# Altium integrated library Capacitors.IntLib: 65 symbols
Pins are listed as number, name and electrical type; pins without a type are passive.

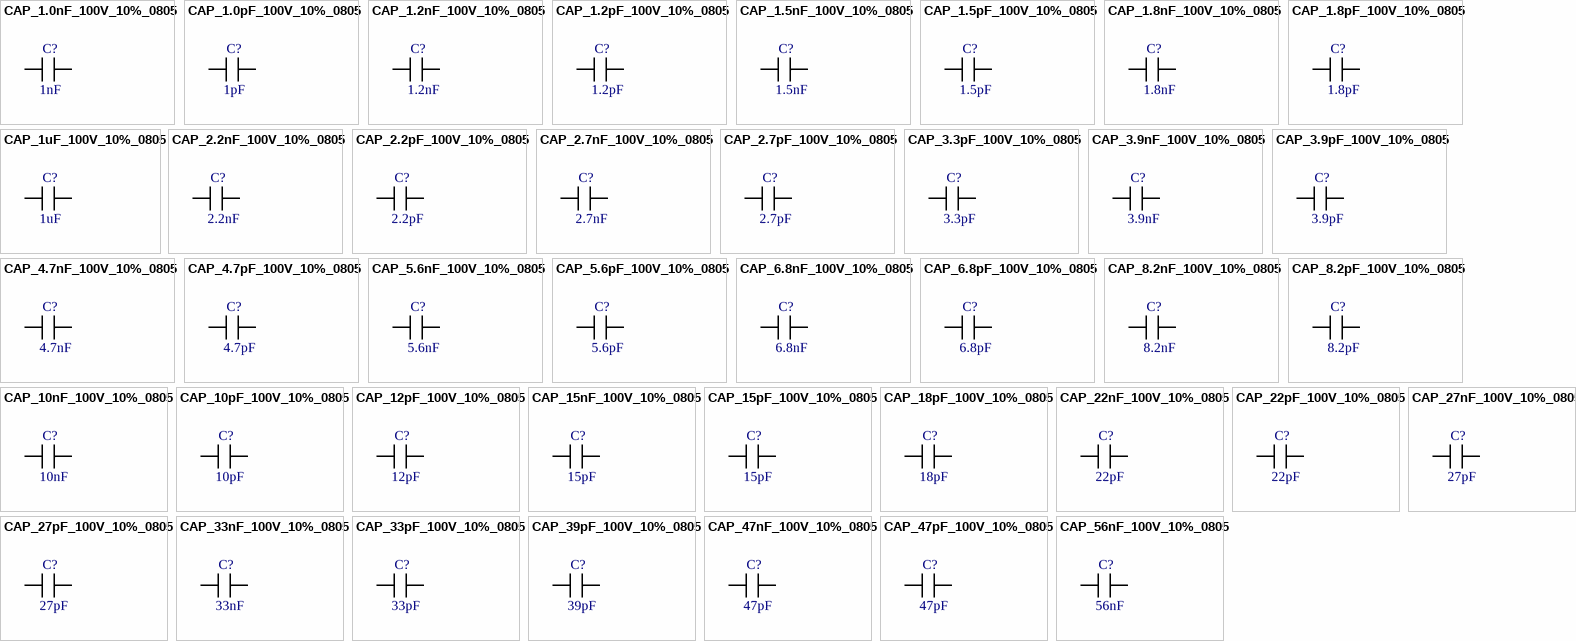
[diagram p0: symbols CAP_1.0nF_100V_10%_0805 to CAP_56nF_100V_10%_0805]

## CAP_1.0nF_100V_10%_0805
designator C?, comment 1nF
AVX 0805 MLCC; Voltage[V]: 100; Tollerance[%]: 10%; Serie: X7R; Package: 0805; Power[W]: *; Codice RS: *; Manufacturer_Part_Number: *; Value[F ]: 1nF
footprint RES_0816_SUS(My_MAXI)
pins: 1, 2

## CAP_1.0pF_100V_10%_0805
designator C?, comment 1pF
AVX 0805 MLCC; Voltage[V]: 100; Tollerance[%]: 10%; Serie: X7R; Package: 0805; Power[W]: *; Codice RS: *; Manufacturer_Part_Number: *; Value[F ]: 1pF
footprint RES_0816_SUS(My_MAXI)
pins: 1, 2

## CAP_1.2nF_100V_10%_0805
designator C?, comment 1.2nF
AVX 0805 MLCC; Voltage[V]: 100; Tollerance[%]: 10%; Serie: X7R; Package: 0805; Power[W]: *; Codice RS: *; Manufacturer_Part_Number: *; Value[F ]: 1.2nF
footprint RES_0816_SUS(My_MAXI)
pins: 1, 2

## CAP_1.2pF_100V_10%_0805
designator C?, comment 1.2pF
AVX 0805 MLCC; Voltage[V]: 100; Tollerance[%]: 10%; Serie: X7R; Package: 0805; Power[W]: *; Codice RS: *; Manufacturer_Part_Number: *; Value[F ]: 1.2pF
footprint RES_0816_SUS(My_MAXI)
pins: 1, 2

## CAP_1.5nF_100V_10%_0805
designator C?, comment 1.5nF
AVX 0805 MLCC; Voltage[V]: 100; Tollerance[%]: 10%; Serie: X7R; Package: 0805; Power[W]: *; Codice RS: *; Manufacturer_Part_Number: *; Value[F ]: 1.5nF
footprint RES_0816_SUS(My_MAXI)
pins: 1, 2

## CAP_1.5pF_100V_10%_0805
designator C?, comment 1.5pF
AVX 0805 MLCC; Voltage[V]: 100; Tollerance[%]: 10%; Serie: X7R; Package: 0805; Power[W]: *; Codice RS: *; Manufacturer_Part_Number: *; Value[F ]: 1.5pF
footprint RES_0816_SUS(My_MAXI)
pins: 1, 2

## CAP_1.8nF_100V_10%_0805
designator C?, comment 1.8nF
AVX 0805 MLCC; Voltage[V]: 100; Tollerance[%]: 10%; Serie: X7R; Package: 0805; Power[W]: *; Codice RS: *; Manufacturer_Part_Number: *; Value[F ]: 1.8nF
footprint RES_0816_SUS(My_MAXI)
pins: 1, 2

## CAP_1.8pF_100V_10%_0805
designator C?, comment 1.8pF
AVX 0805 MLCC; Voltage[V]: 100; Tollerance[%]: 10%; Serie: X7R; Package: 0805; Power[W]: *; Codice RS: *; Manufacturer_Part_Number: *; Value[F ]: 1.8pF
footprint RES_0816_SUS(My_MAXI)
pins: 1, 2

## CAP_1uF_100V_10%_0805
designator C?, comment 1uF
AVX 0805 MLCC; Voltage[V]: 100; Tollerance[%]: 10%; Serie: X7R; Package: 0805; Power[W]: *; Codice RS: *; Manufacturer_Part_Number: *; Value[F ]: 1uF
footprint RES_0816_SUS(My_MAXI)
pins: 1, 2

## CAP_2.2nF_100V_10%_0805
designator C?, comment 2.2nF
AVX 0805 MLCC; Voltage[V]: 100; Tollerance[%]: 10%; Serie: X7R; Package: 0805; Power[W]: *; Codice RS: *; Manufacturer_Part_Number: *; Value[F ]: 2.2nF
footprint RES_0816_SUS(My_MAXI)
pins: 1, 2

## CAP_2.2pF_100V_10%_0805
designator C?, comment 2.2pF
AVX 0805 MLCC; Voltage[V]: 100; Tollerance[%]: 10%; Serie: X7R; Package: 0805; Power[W]: *; Codice RS: *; Manufacturer_Part_Number: *; Value[F ]: 2.2pF
footprint RES_0816_SUS(My_MAXI)
pins: 1, 2

## CAP_2.7nF_100V_10%_0805
designator C?, comment 2.7nF
AVX 0805 MLCC; Voltage[V]: 100; Tollerance[%]: 10%; Serie: X7R; Package: 0805; Power[W]: *; Codice RS: *; Manufacturer_Part_Number: *; Value[F ]: 2.7nF
footprint RES_0816_SUS(My_MAXI)
pins: 1, 2

## CAP_2.7pF_100V_10%_0805
designator C?, comment 2.7pF
AVX 0805 MLCC; Voltage[V]: 100; Tollerance[%]: 10%; Serie: X7R; Package: 0805; Power[W]: *; Codice RS: *; Manufacturer_Part_Number: *; Value[F ]: 2.7pF
footprint RES_0816_SUS(My_MAXI)
pins: 1, 2

## CAP_3.3pF_100V_10%_0805
designator C?, comment 3.3pF
AVX 0805 MLCC; Voltage[V]: 100; Tollerance[%]: 10%; Serie: X7R; Package: 0805; Power[W]: *; Codice RS: *; Manufacturer_Part_Number: *; Value[F ]: 3.3pF
footprint RES_0816_SUS(My_MAXI)
pins: 1, 2

## CAP_3.9nF_100V_10%_0805
designator C?, comment 3.9nF
AVX 0805 MLCC; Voltage[V]: 100; Tollerance[%]: 10%; Serie: X7R; Package: 0805; Power[W]: *; Codice RS: *; Manufacturer_Part_Number: *; Value[F ]: 3.9nF
footprint RES_0816_SUS(My_MAXI)
pins: 1, 2

## CAP_3.9pF_100V_10%_0805
designator C?, comment 3.9pF
AVX 0805 MLCC; Voltage[V]: 100; Tollerance[%]: 10%; Serie: X7R; Package: 0805; Power[W]: *; Codice RS: *; Manufacturer_Part_Number: *; Value[F ]: 3.9pF
footprint RES_0816_SUS(My_MAXI)
pins: 1, 2

## CAP_4.7nF_100V_10%_0805
designator C?, comment 4.7nF
AVX 0805 MLCC; Voltage[V]: 100; Tollerance[%]: 10%; Serie: X7R; Package: 0805; Power[W]: *; Codice RS: *; Manufacturer_Part_Number: *; Value[F ]: 4.7nF
footprint RES_0816_SUS(My_MAXI)
pins: 1, 2

## CAP_4.7pF_100V_10%_0805
designator C?, comment 4.7pF
AVX 0805 MLCC; Voltage[V]: 100; Tollerance[%]: 10%; Serie: X7R; Package: 0805; Power[W]: *; Codice RS: *; Manufacturer_Part_Number: *; Value[F ]: 4.7pF
footprint RES_0816_SUS(My_MAXI)
pins: 1, 2

## CAP_5.6nF_100V_10%_0805
designator C?, comment 5.6nF
AVX 0805 MLCC; Voltage[V]: 100; Tollerance[%]: 10%; Serie: X7R; Package: 0805; Power[W]: *; Codice RS: *; Manufacturer_Part_Number: *; Value[F ]: 5.6nF
footprint RES_0816_SUS(My_MAXI)
pins: 1, 2

## CAP_5.6pF_100V_10%_0805
designator C?, comment 5.6pF
AVX 0805 MLCC; Voltage[V]: 100; Tollerance[%]: 10%; Serie: X7R; Package: 0805; Power[W]: *; Codice RS: *; Manufacturer_Part_Number: *; Value[F ]: 5.6pF
footprint RES_0816_SUS(My_MAXI)
pins: 1, 2

## CAP_6.8nF_100V_10%_0805
designator C?, comment 6.8nF
AVX 0805 MLCC; Voltage[V]: 100; Tollerance[%]: 10%; Serie: X7R; Package: 0805; Power[W]: *; Codice RS: *; Manufacturer_Part_Number: *; Value[F ]: 6.8nF
footprint RES_0816_SUS(My_MAXI)
pins: 1, 2

## CAP_6.8pF_100V_10%_0805
designator C?, comment 6.8pF
AVX 0805 MLCC; Voltage[V]: 100; Tollerance[%]: 10%; Serie: X7R; Package: 0805; Power[W]: *; Codice RS: *; Manufacturer_Part_Number: *; Value[F ]: 6.8pF
footprint RES_0816_SUS(My_MAXI)
pins: 1, 2

## CAP_8.2nF_100V_10%_0805
designator C?, comment 8.2nF
AVX 0805 MLCC; Voltage[V]: 100; Tollerance[%]: 10%; Serie: X7R; Package: 0805; Power[W]: *; Codice RS: *; Manufacturer_Part_Number: *; Value[F ]: 8.2nF
footprint RES_0816_SUS(My_MAXI)
pins: 1, 2

## CAP_8.2pF_100V_10%_0805
designator C?, comment 8.2pF
AVX 0805 MLCC; Voltage[V]: 100; Tollerance[%]: 10%; Serie: X7R; Package: 0805; Power[W]: *; Codice RS: *; Manufacturer_Part_Number: *; Value[F ]: 8.2pF
footprint RES_0816_SUS(My_MAXI)
pins: 1, 2

## CAP_10nF_100V_10%_0805
designator C?, comment 10nF
AVX 0805 MLCC; Voltage[V]: 100; Tollerance[%]: 10%; Serie: X7R; Package: 0805; Power[W]: *; Codice RS: *; Manufacturer_Part_Number: *; Value[F ]: 10nF
footprint RES_0816_SUS(My_MAXI)
pins: 1, 2

## CAP_10pF_100V_10%_0805
designator C?, comment 10pF
AVX 0805 MLCC; Voltage[V]: 100; Tollerance[%]: 10%; Serie: X7R; Package: 0805; Power[W]: *; Codice RS: *; Manufacturer_Part_Number: *; Value[F ]: 10pF
footprint RES_0816_SUS(My_MAXI)
pins: 1, 2

## CAP_12pF_100V_10%_0805
designator C?, comment 12pF
AVX 0805 MLCC; Voltage[V]: 100; Tollerance[%]: 10%; Serie: X7R; Package: 0805; Power[W]: *; Codice RS: *; Manufacturer_Part_Number: *; Value[F ]: 12pF
footprint RES_0816_SUS(My_MAXI)
pins: 1, 2

## CAP_15nF_100V_10%_0805
designator C?, comment 15pF
AVX 0805 MLCC; Voltage[V]: 100; Tollerance[%]: 10%; Serie: X7R; Value[F ]: 15nF; Package: 0805; Power[W]: *; Codice RS: *; Manufacturer_Part_Number: *
footprint RES_0816_SUS(My_MAXI)
pins: 1, 2

## CAP_15pF_100V_10%_0805
designator C?, comment 15pF
AVX 0805 MLCC; Voltage[V]: 100; Tollerance[%]: 10%; Serie: X7R; Package: 0805; Power[W]: *; Codice RS: *; Manufacturer_Part_Number: *; Value[F ]: 15pF
footprint RES_0816_SUS(My_MAXI)
pins: 1, 2

## CAP_18pF_100V_10%_0805
designator C?, comment 18pF
AVX 0805 MLCC; Voltage[V]: 100; Tollerance[%]: 10%; Serie: X7R; Package: 0805; Power[W]: *; Codice RS: *; Manufacturer_Part_Number: *; Value[F ]: 18pF
footprint RES_0816_SUS(My_MAXI)
pins: 1, 2

## CAP_22nF_100V_10%_0805
designator C?, comment 22pF
AVX 0805 MLCC; Voltage[V]: 100; Tollerance[%]: 10%; Serie: X7R; Value[F ]: 22nF; Package: 0805; Power[W]: *; Codice RS: *; Manufacturer_Part_Number: *
footprint RES_0816_SUS(My_MAXI)
pins: 1, 2

## CAP_22pF_100V_10%_0805
designator C?, comment 22pF
AVX 0805 MLCC; Voltage[V]: 100; Tollerance[%]: 10%; Serie: X7R; Package: 0805; Power[W]: *; Codice RS: *; Manufacturer_Part_Number: *; Value[F ]: 22pF
footprint RES_0816_SUS(My_MAXI)
pins: 1, 2

## CAP_27nF_100V_10%_0805
designator C?, comment 27pF
AVX 0805 MLCC; Voltage[V]: 100; Tollerance[%]: 10%; Serie: X7R; Value[F ]: 27nF; Package: 0805; Power[W]: *; Codice RS: *; Manufacturer_Part_Number: *
footprint RES_0816_SUS(My_MAXI)
pins: 1, 2

## CAP_27pF_100V_10%_0805
designator C?, comment 27pF
AVX 0805 MLCC; Voltage[V]: 100; Tollerance[%]: 10%; Serie: X7R; Package: 0805; Power[W]: *; Codice RS: *; Manufacturer_Part_Number: *; Value[F ]: 27pF
footprint RES_0816_SUS(My_MAXI)
pins: 1, 2

## CAP_33nF_100V_10%_0805
designator C?, comment 33nF
AVX 0805 MLCC; Voltage[V]: 100; Tollerance[%]: 10%; Serie: X7R; Package: 0805; Power[W]: *; Codice RS: *; Manufacturer_Part_Number: *; Value[F ]: 33nF
footprint RES_0816_SUS(My_MAXI)
pins: 1, 2

## CAP_33pF_100V_10%_0805
designator C?, comment 33pF
AVX 0805 MLCC; Voltage[V]: 100; Tollerance[%]: 10%; Serie: X7R; Package: 0805; Power[W]: *; Codice RS: *; Manufacturer_Part_Number: *; Value[F ]: 33pF
footprint RES_0816_SUS(My_MAXI)
pins: 1, 2

## CAP_39pF_100V_10%_0805
designator C?, comment 39pF
AVX 0805 MLCC; Voltage[V]: 100; Tollerance[%]: 10%; Serie: X7R; Package: 0805; Power[W]: *; Codice RS: *; Manufacturer_Part_Number: *; Value[F ]: 39pF
footprint RES_0816_SUS(My_MAXI)
pins: 1, 2

## CAP_47nF_100V_10%_0805
designator C?, comment 47pF
AVX 0805 MLCC; Voltage[V]: 100; Tollerance[%]: 10%; Serie: X7R; Value[F ]: 47nF; Package: 0805; Power[W]: *; Codice RS: *; Manufacturer_Part_Number: *
footprint RES_0816_SUS(My_MAXI)
pins: 1, 2

## CAP_47pF_100V_10%_0805
designator C?, comment 47pF
AVX 0805 MLCC; Voltage[V]: 100; Tollerance[%]: 10%; Serie: X7R; Package: 0805; Power[W]: *; Codice RS: *; Manufacturer_Part_Number: *; Value[F ]: 47pF
footprint RES_0816_SUS(My_MAXI)
pins: 1, 2

## CAP_56nF_100V_10%_0805
designator C?, comment 56nF
AVX 0805 MLCC; Voltage[V]: 100; Tollerance[%]: 10%; Serie: X7R; Package: 0805; Power[W]: *; Codice RS: *; Manufacturer_Part_Number: *; Value[F ]: 56nF
footprint RES_0816_SUS(My_MAXI)
pins: 1, 2

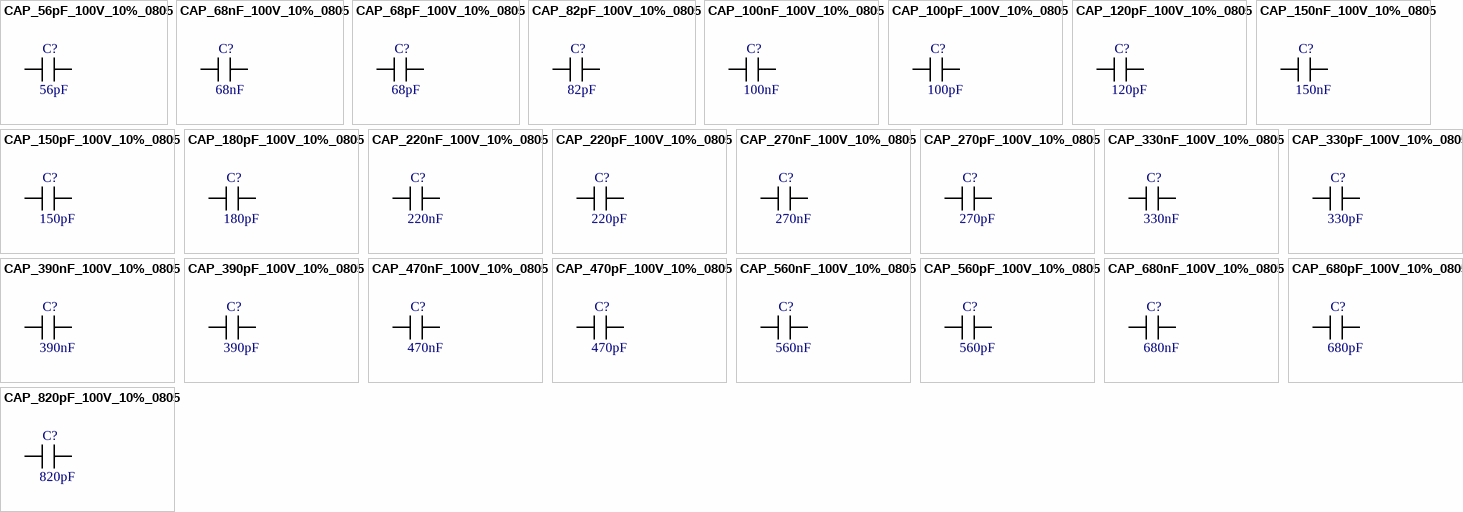
[diagram p1: symbols CAP_56pF_100V_10%_0805 to CAP_820pF_100V_10%_0805]

## CAP_56pF_100V_10%_0805
designator C?, comment 56pF
AVX 0805 MLCC; Voltage[V]: 100; Tollerance[%]: 10%; Serie: X7R; Package: 0805; Power[W]: *; Codice RS: *; Manufacturer_Part_Number: *; Value[F ]: 56pF
footprint RES_0816_SUS(My_MAXI)
pins: 1, 2

## CAP_68nF_100V_10%_0805
designator C?, comment 68nF
AVX 0805 MLCC; Voltage[V]: 100; Tollerance[%]: 10%; Serie: X7R; Package: 0805; Power[W]: *; Codice RS: *; Manufacturer_Part_Number: *; Value[F ]: 68nF
footprint RES_0816_SUS(My_MAXI)
pins: 1, 2

## CAP_68pF_100V_10%_0805
designator C?, comment 68pF
AVX 0805 MLCC; Voltage[V]: 100; Tollerance[%]: 10%; Serie: X7R; Package: 0805; Power[W]: *; Codice RS: *; Manufacturer_Part_Number: *; Value[F ]: 68pF
footprint RES_0816_SUS(My_MAXI)
pins: 1, 2

## CAP_82pF_100V_10%_0805
designator C?, comment 82pF
AVX 0805 MLCC; Voltage[V]: 100; Tollerance[%]: 10%; Serie: X7R; Package: 0805; Power[W]: *; Codice RS: *; Manufacturer_Part_Number: *; Value[F ]: 82pF
footprint RES_0816_SUS(My_MAXI)
pins: 1, 2

## CAP_100nF_100V_10%_0805
designator C?, comment 100nF
AVX 0805 MLCC; Voltage[V]: 100; Tollerance[%]: 10%; Serie: X7R; Package: 0805; Power[W]: *; Codice RS: *; Manufacturer_Part_Number: *; Value[F ]: 100nF
footprint RES_0816_SUS(My_MAXI)
pins: 1, 2

## CAP_100pF_100V_10%_0805
designator C?, comment 100pF
AVX 0805 MLCC; Voltage[V]: 100; Tollerance[%]: 10%; Serie: X7R; Package: 0805; Power[W]: *; Codice RS: *; Manufacturer_Part_Number: *; Value[F ]: 100pF
footprint RES_0816_SUS(My_MAXI)
pins: 1, 2

## CAP_120pF_100V_10%_0805
designator C?, comment 120pF
AVX 0805 MLCC; Voltage[V]: 100; Tollerance[%]: 10%; Serie: X7R; Package: 0805; Power[W]: *; Codice RS: *; Manufacturer_Part_Number: *; Value[F ]: 120pF
footprint RES_0816_SUS(My_MAXI)
pins: 1, 2

## CAP_150nF_100V_10%_0805
designator C?, comment 150nF
AVX 0805 MLCC; Voltage[V]: 100; Tollerance[%]: 10%; Serie: X7R; Package: 0805; Power[W]: *; Codice RS: *; Manufacturer_Part_Number: *; Value[F ]: 150nF
footprint RES_0816_SUS(My_MAXI)
pins: 1, 2

## CAP_150pF_100V_10%_0805
designator C?, comment 150pF
AVX 0805 MLCC; Voltage[V]: 100; Tollerance[%]: 10%; Serie: X7R; Package: 0805; Power[W]: *; Codice RS: *; Manufacturer_Part_Number: *; Value[F ]: 150pF
footprint RES_0816_SUS(My_MAXI)
pins: 1, 2

## CAP_180pF_100V_10%_0805
designator C?, comment 180pF
AVX 0805 MLCC; Voltage[V]: 100; Tollerance[%]: 10%; Serie: X7R; Package: 0805; Power[W]: *; Codice RS: *; Manufacturer_Part_Number: *; Value[F ]: 180pF
footprint RES_0816_SUS(My_MAXI)
pins: 1, 2

## CAP_220nF_100V_10%_0805
designator C?, comment 220nF
AVX 0805 MLCC; Voltage[V]: 100; Tollerance[%]: 10%; Serie: X7R; Package: 0805; Power[W]: *; Codice RS: *; Manufacturer_Part_Number: *; Value[F ]: 220nF
footprint RES_0816_SUS(My_MAXI)
pins: 1, 2

## CAP_220pF_100V_10%_0805
designator C?, comment 220pF
AVX 0805 MLCC; Voltage[V]: 100; Tollerance[%]: 10%; Serie: X7R; Package: 0805; Power[W]: *; Codice RS: *; Manufacturer_Part_Number: *; Value[F ]: 220pF
footprint RES_0816_SUS(My_MAXI)
pins: 1, 2

## CAP_270nF_100V_10%_0805
designator C?, comment 270nF
AVX 0805 MLCC; Voltage[V]: 100; Tollerance[%]: 10%; Serie: X7R; Package: 0805; Power[W]: *; Codice RS: *; Manufacturer_Part_Number: *; Value[F ]: 270nF
footprint RES_0816_SUS(My_MAXI)
pins: 1, 2

## CAP_270pF_100V_10%_0805
designator C?, comment 270pF
AVX 0805 MLCC; Voltage[V]: 100; Tollerance[%]: 10%; Serie: X7R; Package: 0805; Power[W]: *; Codice RS: *; Manufacturer_Part_Number: *; Value[F ]: 270pF
footprint RES_0816_SUS(My_MAXI)
pins: 1, 2

## CAP_330nF_100V_10%_0805
designator C?, comment 330nF
AVX 0805 MLCC; Voltage[V]: 100; Tollerance[%]: 10%; Serie: X7R; Package: 0805; Power[W]: *; Codice RS: *; Manufacturer_Part_Number: *; Value[F ]: 330nF
footprint RES_0816_SUS(My_MAXI)
pins: 1, 2

## CAP_330pF_100V_10%_0805
designator C?, comment 330pF
AVX 0805 MLCC; Voltage[V]: 100; Tollerance[%]: 10%; Serie: X7R; Package: 0805; Power[W]: *; Codice RS: *; Manufacturer_Part_Number: *; Value[F ]: 330pF
footprint RES_0816_SUS(My_MAXI)
pins: 1, 2

## CAP_390nF_100V_10%_0805
designator C?, comment 390nF
AVX 0805 MLCC; Voltage[V]: 100; Tollerance[%]: 10%; Serie: X7R; Package: 0805; Power[W]: *; Codice RS: *; Manufacturer_Part_Number: *; Value[F ]: 390nF
footprint RES_0816_SUS(My_MAXI)
pins: 1, 2

## CAP_390pF_100V_10%_0805
designator C?, comment 390pF
AVX 0805 MLCC; Voltage[V]: 100; Tollerance[%]: 10%; Serie: X7R; Package: 0805; Power[W]: *; Codice RS: *; Manufacturer_Part_Number: *; Value[F ]: 390pF
footprint RES_0816_SUS(My_MAXI)
pins: 1, 2

## CAP_470nF_100V_10%_0805
designator C?, comment 470nF
AVX 0805 MLCC; Voltage[V]: 100; Tollerance[%]: 10%; Serie: X7R; Package: 0805; Power[W]: *; Codice RS: *; Manufacturer_Part_Number: *; Value[F ]: 470nF
footprint RES_0816_SUS(My_MAXI)
pins: 1, 2

## CAP_470pF_100V_10%_0805
designator C?, comment 470pF
AVX 0805 MLCC; Voltage[V]: 100; Tollerance[%]: 10%; Serie: X7R; Package: 0805; Power[W]: *; Codice RS: *; Manufacturer_Part_Number: *; Value[F ]: 470pF
footprint RES_0816_SUS(My_MAXI)
pins: 1, 2

## CAP_560nF_100V_10%_0805
designator C?, comment 560nF
AVX 0805 MLCC; Voltage[V]: 100; Tollerance[%]: 10%; Serie: X7R; Package: 0805; Power[W]: *; Codice RS: *; Manufacturer_Part_Number: *; Value[F ]: 560nF
footprint RES_0816_SUS(My_MAXI)
pins: 1, 2

## CAP_560pF_100V_10%_0805
designator C?, comment 560pF
AVX 0805 MLCC; Voltage[V]: 100; Tollerance[%]: 10%; Serie: X7R; Package: 0805; Power[W]: *; Codice RS: *; Manufacturer_Part_Number: *; Value[F ]: 560pF
footprint RES_0816_SUS(My_MAXI)
pins: 1, 2

## CAP_680nF_100V_10%_0805
designator C?, comment 680nF
AVX 0805 MLCC; Voltage[V]: 100; Tollerance[%]: 10%; Serie: X7R; Package: 0805; Power[W]: *; Codice RS: *; Manufacturer_Part_Number: *; Value[F ]: 680nF
footprint RES_0816_SUS(My_MAXI)
pins: 1, 2

## CAP_680pF_100V_10%_0805
designator C?, comment 680pF
AVX 0805 MLCC; Voltage[V]: 100; Tollerance[%]: 10%; Serie: X7R; Package: 0805; Power[W]: *; Codice RS: *; Manufacturer_Part_Number: *; Value[F ]: 680pF
footprint RES_0816_SUS(My_MAXI)
pins: 1, 2

## CAP_820pF_100V_10%_0805
designator C?, comment 820pF
AVX 0805 MLCC; Voltage[V]: 100; Tollerance[%]: 10%; Serie: X7R; Package: 0805; Power[W]: *; Codice RS: *; Manufacturer_Part_Number: *; Value[F ]: 820pF
footprint RES_0816_SUS(My_MAXI)
pins: 1, 2